# EAGLE library part DS1337 (library selfmade)
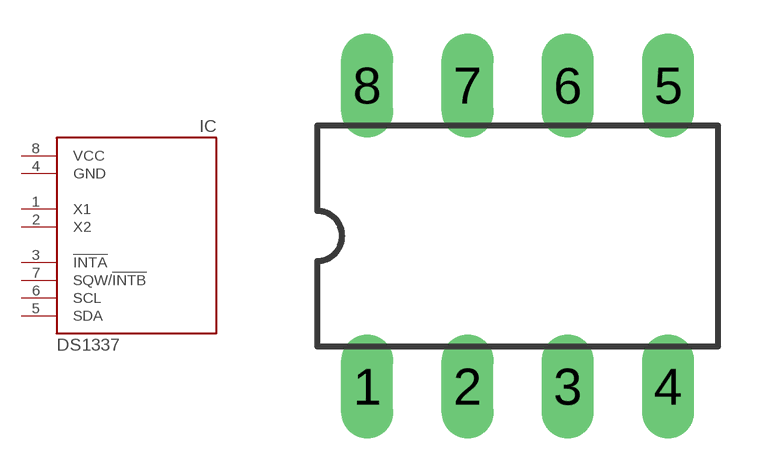
[diagram p6: symbol with the pads of DIL08; footprint DIL08]

Designator prefix IC

## DS1337  [DIL08]
1  X1
2  X2
3  !INTA
4  GND
5  SDA
6  SCL
7  SQW/!INTB
8  VCC

## Footprint DIL08 (pad centres in mm)
Dual In Line
drill 0.813 long: 1 -3.81,-3.81; 2 -1.27,-3.81; 3 1.27,-3.81; 4 3.81,-3.81; 5 3.81,3.81; 6 1.27,3.81; 7 -1.27,3.81; 8 -3.81,3.81